# Altium integrated library ComponentesDiversos.IntLib: 1 symbol
Pins are listed as number, name and electrical type; pins without a type are passive.

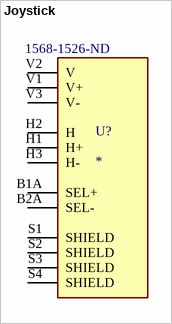
[diagram p0: symbol Joystick]

## Joystick
designator U?  Supplier Part Number 1: 1568-1526-ND
Thumb Joystick; MP: COM-09032; Price: None; Availability: Unavailable; Value: *; Package: None; Supplier 1: Digikey
footprint Joystick
pins: B1A SEL+, B2A SEL-, H1 H+, H2 H, H3 H-, S1 SHIELD, S2 SHIELD, S3 SHIELD, S4 SHIELD, V1 V+, V2 V, V3 V-